# EAGLE library part CONN_12-1 (library pel_molex)
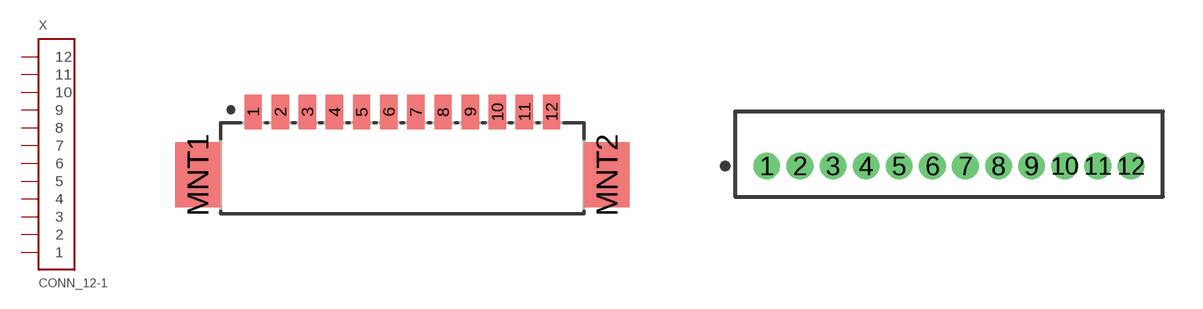
[diagram p2: symbol with the pads of PB-53261-12; footprints PB-53261-12, PB-53047-12]

Designator prefix X

## CONN_12-1-53261  [PB-53261-12]
1  1
2  2
3  3
4  4
5  5
6  6
7  7
8  8
9  9
10  10
11  11
12  12

## CONN_12-1-53047  [PB-53047-12]
Pads as for PB-53261-12

## CONN_12-1-53398  [PB-53398-12]
Pads as for PB-53261-12

## Footprint PB-53261-12 (pad centres in mm)
smd 0.8 x 1.6: 1 -6.875,1.1; 2 -5.625,1.1; 3 -4.375,1.1; 4 -3.125,1.1; 5 -1.875,1.1; 6 -0.625,1.1; 7 0.625,1.1; 8 1.875,1.1; 9 3.125,1.1; 10 4.375,1.1; 11 5.625,1.1; 12 6.875,1.1
smd 2.1 x 3: MNT1 -9.425,-1.8; MNT2 9.425,-1.8

## Footprint PB-53047-12 (pad centres in mm)
drill 0.5: 1 -6.875,0; 2 -5.625,0; 3 -4.375,0; 4 -3.125,0; 5 -1.875,0; 6 -0.625,0; 7 0.625,0; 8 1.875,0; 9 3.125,0; 10 4.375,0; 11 5.625,0; 12 6.875,0

## Footprint PB-53398-12 (pad centres in mm)
smd 0.8 x 1.3: 1 -6.875,1.25; 2 -5.625,1.25; 3 -4.375,1.25; 4 -3.125,1.25; 5 -1.875,1.25; 6 -0.625,1.25; 7 0.625,1.25; 8 1.875,1.25; 9 3.125,1.25; 10 4.375,1.25; 11 5.625,1.25; 12 6.875,1.25
smd 2.1 x 3: PAD1 -9.425,-1.5; PAD2 9.425,-1.5